# EAGLE library part IC_LAN_XPORT (library mylib_20130829)
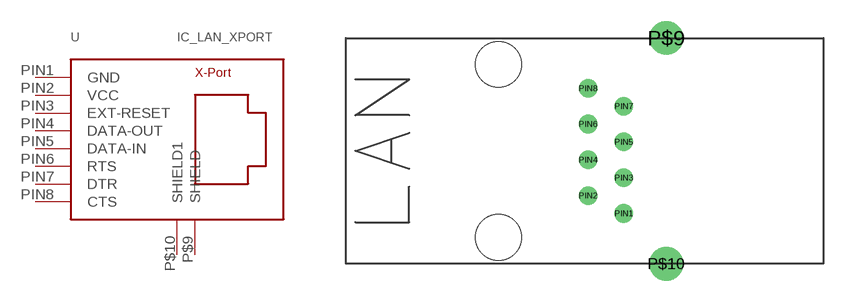
[diagram p17: symbol with the pads of IC_XPORT; footprint IC_XPORT]

Designator prefix U

## IC_LAN_XPORT  [IC_XPORT]
P$9  SHIELD
P$10  SHIELD1
PIN1  GND
PIN2  VCC
PIN3  EXT-RESET
PIN4  DATA-OUT
PIN5  DATA-IN
PIN6  RTS
PIN7  DTR
PIN8  CTS

## Footprint IC_XPORT (pad centres in mm)
drill 1.6: P$9 4.28,8.025; P$10 4.28,-8.025
drill 0.813: PIN1 1.27,-4.445; PIN2 -1.27,-3.175; PIN3 1.27,-1.905; PIN4 -1.27,-0.635; PIN5 1.27,0.635; PIN6 -1.27,1.905; PIN7 1.27,3.175; PIN8 -1.27,4.445
hole 3.25 at -7.62,-6.15
hole 3.25 at -7.62,6.15